# EAGLE library part ESP32-W (library ESP32-W)
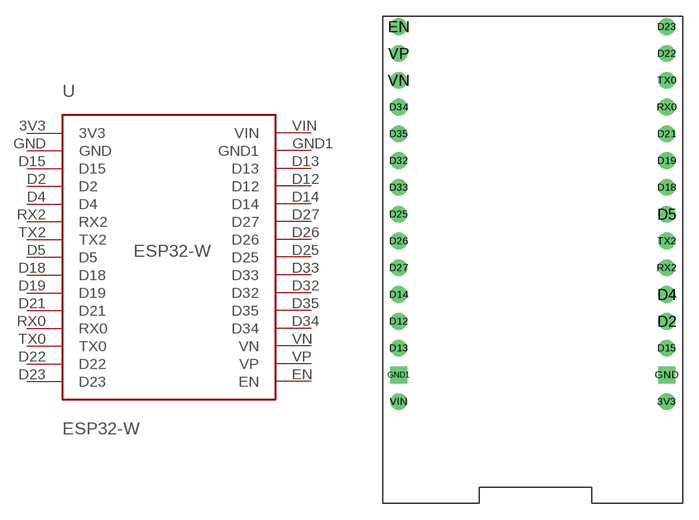
[diagram p0: symbol with the pads of DIP; footprint DIP]

Designator prefix -

## ESP32-W  [DIP]
3V3  3V3
D2  D2
D4  D4
D5  D5
D12  D12
D13  D13
D14  D14
D15  D15
D18  D18
D19  D19
D21  D21
D22  D22
D23  D23
D25  D25
D26  D26
D27  D27
D32  D32
D33  D33
D34  D34
D35  D35
EN  EN
GND  GND
GND1  GND1
RX0  RX0
RX2  RX2
TX0  TX0
TX2  TX2
VIN  VIN
VN  VN
VP  VP

## Footprint DIP (pad centres in mm)
drill 1.04: 3V3 12,-19; D2 12,-11.5; D4 12,-9; D5 12,-1.5; D12 -13,-11.5; D13 -13,-14; D14 -13,-9; D15 12,-14; D18 12,1; D19 12,3.5; D21 12,6; D22 12,13.5; D23 12,16; D25 -13,-1.5; D26 -13,-4; D27 -13,-6.5; D32 -13,3.5; D33 -13,1; D34 -13,8.5; D35 -13,6; EN -13,16; RX0 12,8.5; RX2 12,-6.5; TX0 12,11; TX2 12,-4; VIN -13,-19; VN -13,11; VP -13,13.5
drill 1.04 square: GND 12,-16.5; GND1 -13,-16.5